# Altium schematic symbol library SCH - SSR - IXYS CPC1390.SchLib: 1 symbol
Pins are listed as number, name and electrical type; pins without a type are passive.

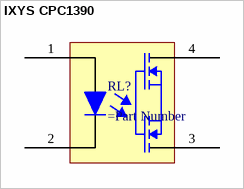
[diagram p0: symbol IXYS CPC1390]

## IXYS CPC1390
designator RL?
pins: 1, 2, 3, 4